# Altium schematic symbol library SQMW56R8J.SchLib: 2 symbols
Pins are listed as number, name and electrical type; pins without a type are passive.

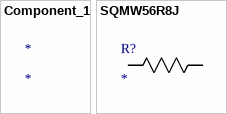
[diagram p0: symbols Component_1 to SQMW56R8J]

## Component_1
designator *

## SQMW56R8J
designator R?
No Description Available; Mfr_Name: TE Connectivity
footprint res2_1-1623782-9_TEC
pins: 1, 2